# Altium footprint library LCD3310.PcbLib: 1 footprints
Each footprint in its own frame and in the unit in brackets; x right, y up, seen from the top. Pads: shape width x height; smd on the part's side, far side on the other; paste and mask are expansions set on the pad; w line width, h text height; cw(c..) or ccw(c..) is an arc to the next point about the centre after c.
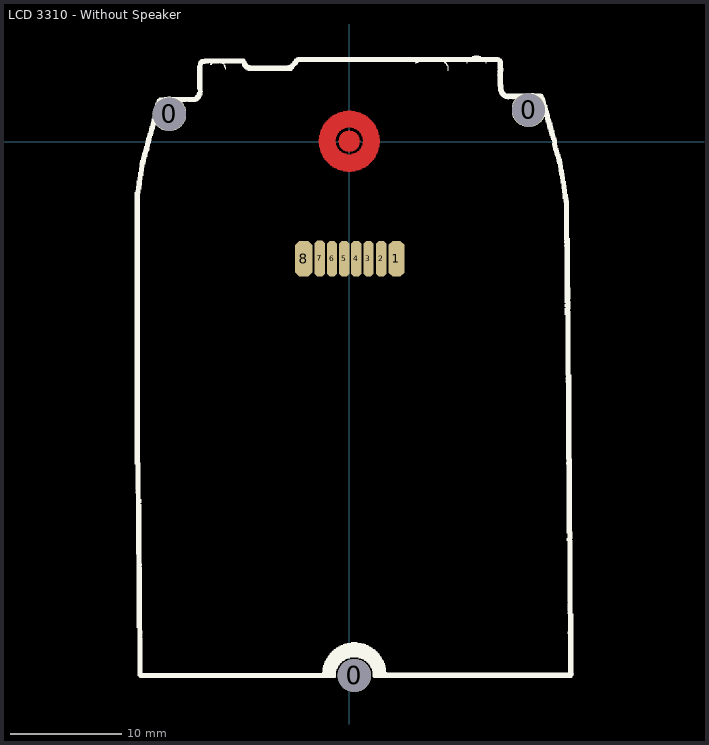
[diagram p0: the footprint, top view; thin cyan lines are the x and y axes]

## LCD 3310 - Without Speaker [mm]
pads (11):
  round 3 hole 3: 0(-16.138,2.486) 0(0.474,-47.958) 0(16.12,2.842)
  oct 1.4x3.21 smd: 1(4.258,-10.518)
  oct 0.92x3.21 smd: 2(2.887,-10.518) 3(1.744,-10.518) 4(0.651,-10.518) 5(-0.441,-10.518) 6(-1.533,-10.518) 7(-2.625,-10.493)
  oct 1.584x3.21 smd: 8(-4.073,-10.518)
Top Layer:
  region: 220 vertices and 1 holes, not listed, extent -2.725,-2.709 2.758,2.774
  region: 0.078,0.946 0.321,0.946 0.321,0.885 0.443,0.885 0.443,0.824 0.565,0.824 0.565,0.763 0.626,0.763 0.626,0.702 0.687,0.702 0.687,0.642 0.748,0.642 0.748,0.581 0.809,0.581 0.809,0.459 0.87,0.459 0.87,0.337 0.931,0.337 0.931,0.093 0.992,0.093 0.992,-0.029 0.931,-0.029 0.931,-0.272 0.87,-0.272 0.87,-0.394 0.809,-0.394 0.809,-0.516 0.748,-0.516 0.748,-0.577 0.687,-0.577 0.687,-0.638 0.626,-0.638 0.626,-0.699 0.565,-0.699 0.565,-0.76 0.443,-0.76 0.443,-0.821 0.321,-0.821 0.321,-0.882 0.078,-0.882 0.078,-0.942 -0.044,-0.942 -0.044,-0.882 -0.288,-0.882 -0.288,-0.821 -0.41,-0.821 -0.41,-0.76 -0.532,-0.76 -0.532,-0.699 -0.592,-0.699 -0.592,-0.638 -0.653,-0.638 -0.653,-0.577 -0.714,-0.577 -0.714,-0.516 -0.775,-0.516 -0.775,-0.394 -0.836,-0.394 -0.836,-0.272 -0.897,-0.272 -0.897,-0.029 -0.958,-0.029 -0.958,0.093 -0.897,0.093 -0.897,0.337 -0.836,0.337 -0.836,0.459 -0.775,0.459 -0.775,0.581 -0.714,0.581 -0.714,0.642 -0.653,0.642 -0.653,0.702 -0.592,0.702 -0.592,0.763 -0.532,0.763 -0.532,0.824 -0.41,0.824 -0.41,0.885 -0.288,0.885 -0.288,0.946 -0.044,0.946 -0.044,1.007 0.078,1.007
Top Overlay:
  drawing of 11 lines, arcs and shapes, not listed